# Altium footprint library AUVic_Integrated_Library_Fuses.PcbLib: 4 footprints
Each footprint in its own frame and in the unit in brackets; x right, y up, seen from the top. Pads: shape width x height; smd on the part's side, far side on the other; paste and mask are expansions set on the pad; w line width, h text height; cw(c..) or ccw(c..) is an arc to the next point about the centre after c.
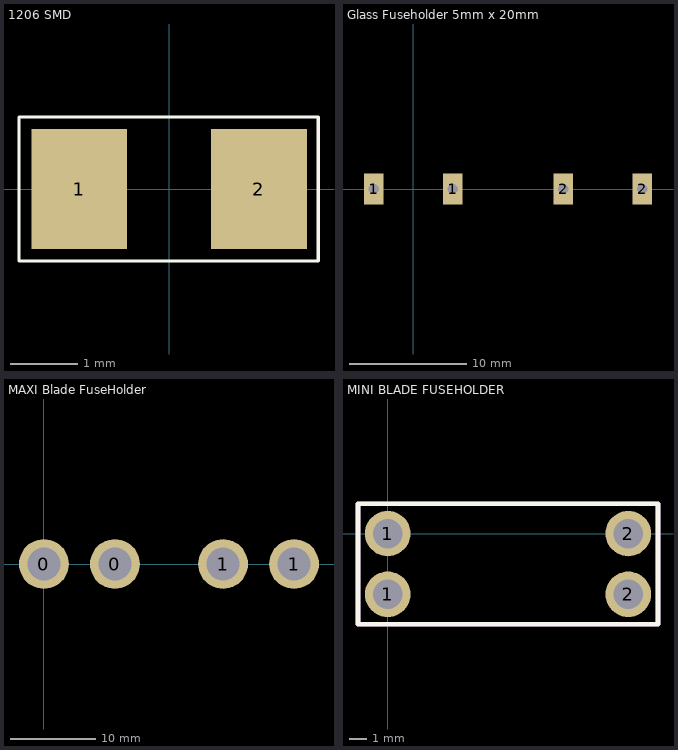
[diagram p0: the footprints below, top view; thin cyan lines are the x and y axes]

## 1206 SMD [mm]
pads (2):
  rect 1.42x1.78 smd: 1(-1.33,0) 2(1.33,0)
Top Overlay:
  lines w0.05: -2.223,1.067 -2.223,0 -2.223,-1.067 -1.092,-1.067 1.118,-1.067 2.21,-1.067 2.21,-0.546 2.21,0.546 2.21,1.067 -2.21,1.067
3D body "User Library-CR3216-1206.STEP": height 0.6, standoff 0, extent -1.6,-0.8 1.6,0.8

## Glass Fuseholder 5mm x 20mm [mil]
pads (4):
  rect 65x105 hole 35 square: 1(-132.5,0) 1(132.5,0) 2(503.5,0) 2(768.5,0)
3D body "User Library-Clips FC-201 with fuse 5x20.STEP": height 339.65, standoff -140, extent -139.19,-123.95 781.2,125.94

## MAXI Blade FuseHolder [mm]
pads (4):
  round 5.86 hole 3.86: 0(0,0) 0(8.33,0) 1(21.031,0) 1(29.361,0)

## MINI BLADE FUSEHOLDER [mm]
pads (4):
  round 2.55 hole 1.65: 1(0,-3.4) 1(0,0) 2(13.47,-3.4) 2(13.47,0)
Top Overlay:
  lines w0.254: -1.665,-5.075 15.135,-5.07 ; -1.665,-5.065 -1.665,1.665 15.135,1.665 15.135,-5.065
Mechanical 1:
  lines w0.254: -1.665,-5.075 15.135,-5.07 ; -1.665,-5.065 -1.665,1.665 15.135,1.665 15.135,-5.065